# Altium footprint library PcbLib1.PcbLib: 1 footprints
Each footprint in its own frame and in the unit in brackets; x right, y up, seen from the top. Pads: shape width x height; smd on the part's side, far side on the other; paste and mask are expansions set on the pad; w line width, h text height; cw(c..) or ccw(c..) is an arc to the next point about the centre after c.
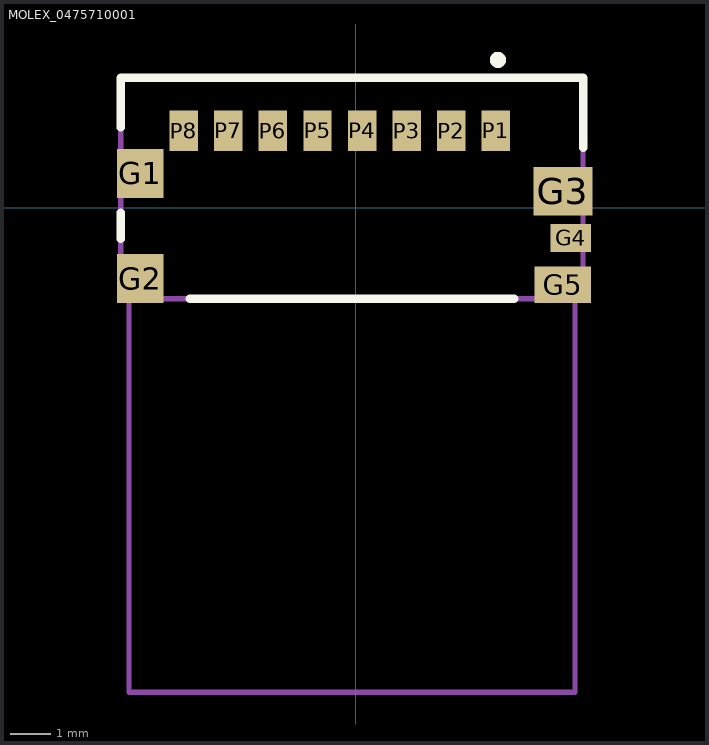
[diagram p0: the footprint, top view; thin cyan lines are the x and y axes]

## MOLEX_0475710001 [mm] "CONN MICRO SD CARD PUSH-PULL R/A"
height 2.3
pads (13):
  rect 1.15x1.2 smd paste+0 mask+0.051: G1(-5.312,0.845) G2(-5.312,-1.745)
  rect 1.45x1.2 smd paste+0 mask+0.051: G3(5.113,0.405)
  rect 1x0.7 smd paste+0 mask+0.051: G4(5.313,-0.745)
  rect 1.4x0.9 smd paste+0 mask+0.051: G5(5.113,-1.895)
  rect 0.7x1 smd paste+0 mask+0.051: P1(3.463,1.895) P2(2.363,1.895) P3(1.263,1.895) P4(0.163,1.895) P5(-0.937,1.895) P6(-2.037,1.895) P7(-3.137,1.895) P8(-4.237,1.895)
Top Overlay:
  circle w0.2: c3.512,3.646 r0.1
  lines w0.203: -5.787,-0.768 -5.787,-0.12 ; -5.787,1.98 -5.787,3.205 5.613,3.205 5.613,1.48 ; -4.087,-2.245 3.913,-2.245
Mechanical 1:
  text "'.Designator'" at -0.087,0.48 h0.76
Mechanical 15:
  circle w0.1: c3.512,1.946 r0.2
  lines w0.127: -5.587,-2.245 -5.587,-11.945 5.413,-11.945 5.413,-2.245 ; -5.787,-2.245 5.613,-2.245 5.613,3.205 -5.787,3.205 -5.787,-2.245
  text "CARD" at -1.2,-11.5 h1
3D body "User Library-475710001.STEP": height 2.31, standoff 0.02, extent -5.747,-2.176 5.653,3.274